# Altium schematic symbol library IC_HCPL-7520.SchLib: 1 symbol
Pins are listed as number, name and electrical type; pins without a type are passive.

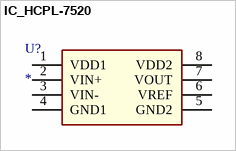
[diagram p0: symbol IC_HCPL-7520]

## IC_HCPL-7520
designator U?
pins: 1 VDD1, 2 VIN+, 3 VIN-, 4 GND1, 5 GND2, 6 VREF, 7 VOUT, 8 VDD2